# EAGLE library part TDA1557Q (library Audio-Power-amlifier)
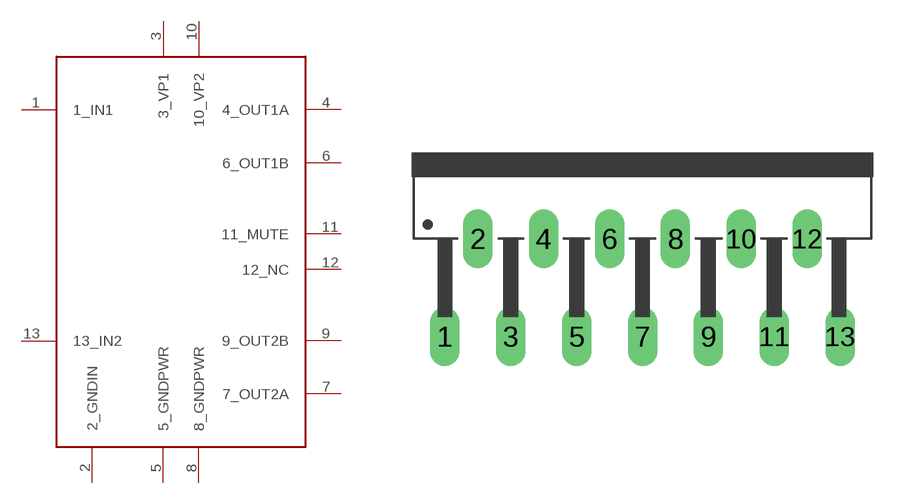
[diagram p19: symbol with the pads of SIP13; footprint SIP13]

Designator prefix -

## TDA1557QSIP13  [SIP13]
1  1_IN1
2  2_GNDIN
3  3_VP1
4  4_OUT1A
5  5_GNDPWR
6  6_OUT1B
7  7_OUT2A
8  8_GNDPWR
9  9_OUT2B
10  10_VP2
11  11_MUTE
12  12_NC
13  13_IN2

## Footprint SIP13 (pad centres in mm)
drill 1.016 long: 1 -10.211,-4.445; 2 -8.509,0.61; 3 -6.807,-4.445; 4 -5.105,0.61; 5 -3.404,-4.445; 6 -1.702,0.61; 7 0,-4.445; 8 1.702,0.61; 9 3.404,-4.445; 10 5.105,0.61; 11 6.807,-4.445; 12 8.509,0.61; 13 10.211,-4.445